# Altium schematic symbol library CON_Samtec_2Pin.SchLib: 1 symbol
Pins are listed as number, name and electrical type; pins without a type are passive.

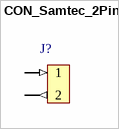
[diagram p0: symbol CON_Samtec_2Pin]

## CON_Samtec_2Pin
designator J?  (value not drawn)
footprint CON_Samtec_2Pin (Connector)
pins: 1 (in), 2 (out)